# Altium schematic symbol library FSUSB30.SchLib: 1 symbol
Pins are listed as number, name and electrical type; pins without a type are passive.

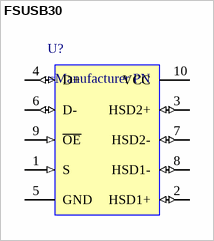
[diagram p0: symbol FSUSB30]

## FSUSB30
designator U?
Two-Port High Speed USB switch
pins: 1 S (in), 2 HSD1+ (io), 3 HSD2+ (io), 4 D+ (io), 5 GND (power), 6 D- (io), 7 HSD2- (io), 8 HSD1- (io), 9 ~{OE} (in), 10 VCC (power)